# EAGLE library part LPS25HB (library LPS25HB)
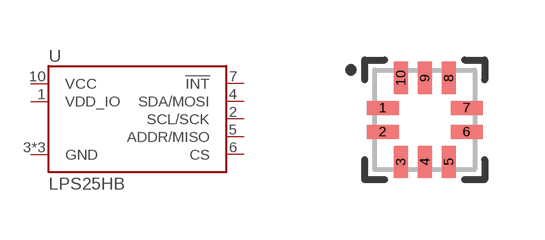
[diagram p0: symbol with the pads of LPS25HB; footprint LPS25HB]

Designator prefix U

## LPS25HB  [LPS25HB]
1  VDD_IO
2  SCL/SCK
3  GND
4  SDA/MOSI
5  ADDR/MISO
6  CS
7  !INT
8  GND
9  GND
10  VCC

## Footprint LPS25HB (pad centres in mm)
smd 0.8 x 0.35: 1 -1.05,0.3; 2 -1.05,-0.3; 6 1.05,-0.3; 7 1.05,0.3
smd 0.35 x 0.8: 3 -0.6,-1.05; 4 0,-1.05; 5 0.6,-1.05; 8 0.6,1.05; 9 0,1.05; 10 -0.6,1.05